# EAGLE library part ICM-42688-P (library ICM-42688-P)
IMU (Inertial Measurement Unit), 6-Axis, Accelerometer, Gyroscope Source: Datasheet <https://3cfeqx1hf82y3xcoull08ihx-wpengine.netdna-ssl.com/wp-content/uploads/2021/06/DS-000347-ICM-42688-P-v1.5.pdf>
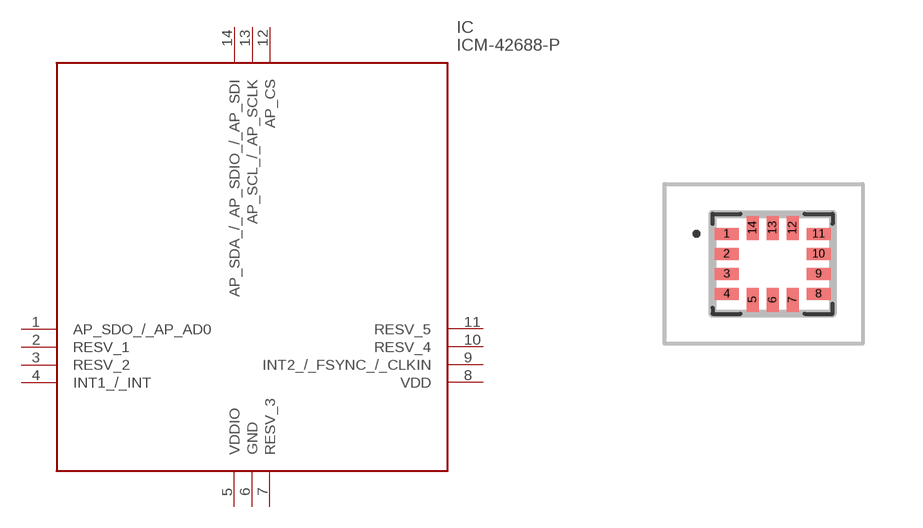
[diagram p0: symbol with the pads of IIM42352; footprint IIM42352]

Designator prefix IC

## ICM-42688-P (Arrow_Part_Number: ICM-42688-P; Arrow_Price-Stock: https://www.arrow.com/en/products/icm-42688-p_2/invensense.html?utm_currency=USD&region=nac; Description: IMU (Inertial Measurement Unit), 6-Axis, Accelerometer, Gyroscope; Height: mm; Manufacturer_Name: TDK; Manufacturer_Part_Number: ICM-42688-P; Mouser_Part_Number: 410-ICM-42688-P; Mouser_Price-Stock: https://www.mouser.co.uk/ProductDetail/TDK-InvenSense/ICM-42688-P?qs=OlC7AqGiEDk8QrNAV728zw%3D%3D)  [IIM42352]
1  AP_SDO_/_AP_AD0
2  RESV_1
3  RESV_2
4  INT1_/_INT
5  VDDIO
6  GND
7  RESV_3
8  VDD
9  INT2_/_FSYNC_/_CLKIN
10  RESV_4
11  RESV_5
12  AP_CS
13  AP_SCL_/_AP_SCLK
14  AP_SDA_/_AP_SDIO_/_AP_SDI

## Footprint IIM42352 (pad centres in mm)
14 Lead LGA (2.5x3x0.91)_1
smd 0.6 x 0.3: 1 -1.15,0.75; 2 -1.15,0.25; 3 -1.15,-0.25; 4 -1.15,-0.75; 8 1.15,-0.75; 9 1.15,-0.25; 10 1.15,0.25; 11 1.15,0.75
smd 0.3 x 0.6: 5 -0.5,-0.9; 6 0,-0.9; 7 0.5,-0.9; 12 0.5,0.9; 13 0,0.9; 14 -0.5,0.9